# Altium footprint library TIDA-01576_ADS8686S_ISO_Interface.PcbLib: 67 footprints (part 5 of 5)
Each footprint in its own frame and in the unit in brackets; x right, y up, seen from the top. Pads: shape width x height; smd on the part's side, far side on the other; paste and mask are expansions set on the pad; w line width, h text height; cw(c..) or ccw(c..) is an arc to the next point about the centre after c.
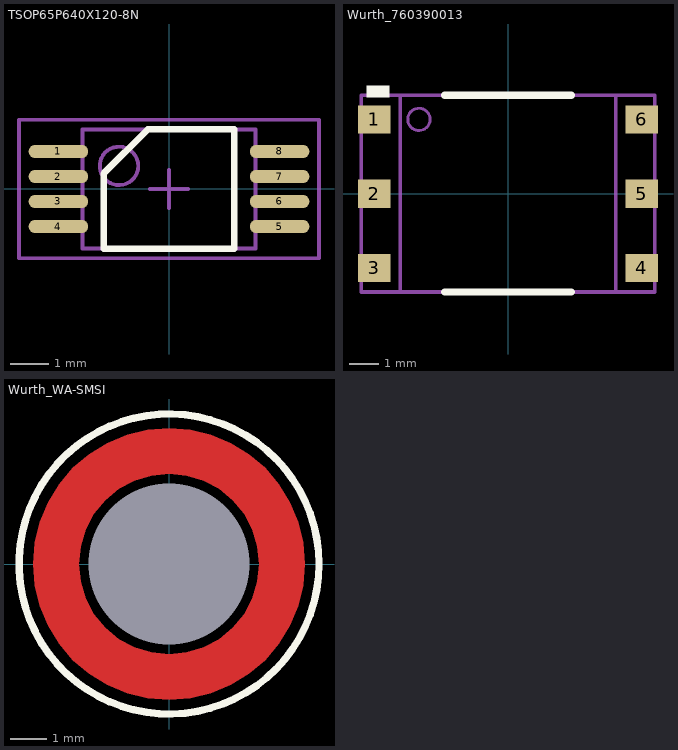
[diagram p4: the footprints below, top view; thin cyan lines are the x and y axes]

## TSOP65P640X120-8N [mm] "TSOP, 8-Leads, Body 3.1x4.5mm (max), Pitch 0.65mm, IPC Medium Density"
height 1.2
pads (8):
  oval 1.55x0.35 smd mask+0.08: 1(-2.875,0.975) 2(-2.875,0.325) 3(-2.875,-0.325) 4(-2.875,-0.975) 5(2.875,-0.975) 6(2.875,-0.325) 7(2.875,0.325) 8(2.875,0.975)
Top Overlay:
  lines w0.17: -1.7,-1.55 1.7,-1.55 1.7,1.55 -0.55,1.55 -1.7,0.4 -1.7,-1.55
Mechanical 5:
  circle w0.1: c-1.3,0.6 r0.5
  lines w0.1: -2.25,-1.55 2.25,-1.55 2.25,1.55 -2.25,1.55 -2.25,-1.55
  text ".Designator" at -1.8,-1.2 h1
Mechanical 15:
  lines w0.1: -0.5,0 0.5,0 ; 0,-0.5 0,0.5 ; -3.9,-1.8 3.9,-1.8 3.9,1.8 -3.9,1.8 -3.9,-1.8
3D body: height 1.2, standoff 0.15, extent -2.25,-1.55 2.25,1.55
3D body: height 1.21, standoff 1, extent -1.799,0.101 -0.801,1.099

## Wurth_760390013 [mil] "Wurth"
height 165
pads (6):
  rect 44x38 smd: 1(-180,100) 2(-180,0) 3(-180,-100) 4(180,-100) 5(180,0) 6(180,100)
Top Overlay:
  region: -190,145 -160,145 -160,130 -190,130
  lines w10: -85,-132.5 85,-132.5 ; -85,132.5 85,132.5
Mechanical 5:
  circle w3.94: c-120,100 r15
  lines w5: -145,-130 -145,130 ; 145,-130 145,130 ; -197.5,-132.5 197.5,-132.5 197.5,132.5 -197.5,132.5 -197.5,-132.5
  text ".Designator" at -70,-15 h40
3D body: height 20, standoff 0, extent -197.14,85 -145,115
3D body: height 20, standoff 0, extent -197.63,-15 -145,15
3D body: height 20, standoff 0, extent -197.63,-115 -145,-85
3D body: height 20, standoff 0, extent 145,85 197.5,115
3D body: height 20, standoff 0, extent 145,-15 197.5,15
3D body: height 20, standoff 0, extent 143.75,-115 196.25,-85
3D body: height 165.5, standoff 150, extent -134.98,85.02 -105.02,114.98
3D body: height 165, standoff 0, extent -145,-135 145,130

## Wurth_WA-SMSI [mm] "ROUND STANDOFF M3 STEEL 5MM"
height 5
pads (1):
  round 0 hole 4.4 unplated: ""(0,0)
Top Layer:
  region: -3.711,0 -3.666,-0.581 -3.53,-1.147 -3.307,-1.685 -3.003,-2.182 -2.624,-2.624 -2.182,-3.003 -1.685,-3.307 -1.147,-3.53 -0.581,-3.666 0,-3.711 0.581,-3.666 1.147,-3.53 1.685,-3.307 2.182,-3.003 2.624,-2.624 3.003,-2.182 3.307,-1.685 3.53,-1.147 3.666,-0.581 3.711,0 3.7,0 2.466,0 2.418,-0.481 2.278,-0.944 2.05,-1.37 1.744,-1.744 1.37,-2.05 0.944,-2.278 0.481,-2.418 0,-2.466 -0.481,-2.418 -0.944,-2.278 -1.37,-2.05 -1.744,-1.744 -2.05,-1.37 -2.278,-0.944 -2.418,-0.481 -2.466,0 -2.454,0
  region: -3.711,0 -3.666,0.581 -3.53,1.147 -3.307,1.685 -3.003,2.182 -2.624,2.624 -2.182,3.003 -1.685,3.307 -1.147,3.53 -0.581,3.666 0,3.711 0.581,3.666 1.147,3.53 1.685,3.307 2.182,3.003 2.624,2.624 3.003,2.182 3.307,1.685 3.53,1.147 3.666,0.581 3.711,0 3.7,0 2.466,0 2.418,0.481 2.278,0.944 2.05,1.37 1.744,1.744 1.37,2.05 0.944,2.278 0.481,2.418 0,2.466 -0.481,2.418 -0.944,2.278 -1.37,2.05 -1.744,1.744 -2.05,1.37 -2.278,0.944 -2.418,0.481 -2.466,0 -2.454,0
Top Overlay:
  circle w0.2: c0,0 r4.1
Top Paste:
  region: 2.184,-0.268 2.154,-0.448 2.05,-0.797 1.891,-1.125 1.679,-1.421 1.421,-1.679 1.125,-1.891 0.797,-2.05 0.448,-2.154 0.268,-2.184 0.268,-3.686 0.268,-3.69 0.488,-3.674 0.92,-3.591 1.339,-3.456 1.739,-3.273 2.114,-3.044 2.46,-2.772 2.771,-2.461 3.044,-2.115 3.273,-1.74 3.456,-1.34 3.59,-0.921 3.674,-0.489 3.69,-0.27 3.67,-0.268
  region: -0.268,-2.184 -0.448,-2.154 -0.797,-2.05 -1.125,-1.891 -1.421,-1.679 -1.679,-1.421 -1.891,-1.125 -2.05,-0.797 -2.154,-0.448 -2.184,-0.268 -3.686,-0.268 -3.69,-0.268 -3.674,-0.488 -3.591,-0.92 -3.456,-1.339 -3.273,-1.739 -3.044,-2.114 -2.772,-2.46 -2.461,-2.771 -2.115,-3.044 -1.74,-3.273 -1.34,-3.456 -0.921,-3.59 -0.489,-3.674 -0.27,-3.69 -0.268,-3.67
  region: -2.184,0.268 -2.154,0.448 -2.05,0.797 -1.891,1.125 -1.679,1.421 -1.421,1.679 -1.125,1.891 -0.797,2.05 -0.448,2.154 -0.268,2.184 -0.268,3.686 -0.268,3.69 -0.488,3.674 -0.92,3.591 -1.339,3.456 -1.739,3.273 -2.114,3.044 -2.46,2.772 -2.771,2.461 -3.044,2.115 -3.273,1.74 -3.456,1.34 -3.59,0.921 -3.674,0.489 -3.69,0.27 -3.67,0.268
  region: 0.268,2.184 0.448,2.154 0.797,2.05 1.125,1.891 1.421,1.679 1.679,1.421 1.891,1.125 2.05,0.797 2.154,0.448 2.184,0.268 3.686,0.268 3.69,0.268 3.674,0.488 3.591,0.92 3.456,1.339 3.273,1.739 3.044,2.114 2.772,2.46 2.461,2.771 2.115,3.044 1.74,3.273 1.34,3.456 0.921,3.59 0.489,3.674 0.27,3.69 0.268,3.67
Mechanical 5:
  circle w0.1: c0,0 r3
  text ".Designator" at -1.524,-0.508 h1.02
3D body "9774050360R.stp": height 5, standoff -1.4, extent -3,-3 3,3